# Altium footprint library SQD50N05.PcbLib: 1 footprints
Each footprint in its own frame and in the unit in brackets; x right, y up, seen from the top. Pads: shape width x height; smd on the part's side, far side on the other; paste and mask are expansions set on the pad; w line width, h text height; cw(c..) or ccw(c..) is an arc to the next point about the centre after c.
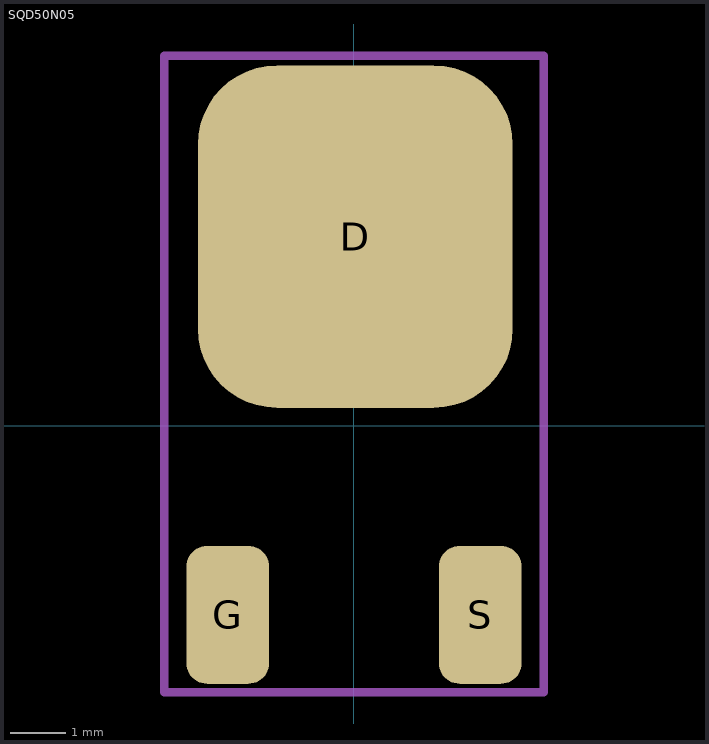
[diagram p0: the footprint, top view; thin cyan lines are the x and y axes]

## SQD50N05 [mm] "DPAK housing"
height 2.3
pads (3):
  rrect50% 5.7x6.2 smd: D(0.025,3.425)
  rrect50% 1.5x2.5 smd: G(-2.287,-3.425) S(2.288,-3.425)
Mechanical 15:
  lines w0.15: -3.437,-4.825 -3.437,6.7 3.438,6.7 3.438,-4.825 -3.437,-4.825
3D body: height 0.61, standoff 0, extent 1.873,-4.575 2.753,-1.275
3D body: height 0.61, standoff 0, extent -2.727,-4.575 -1.847,-1.275
3D body: height 0.89, standoff 0, extent -2.718,4.94 2.742,6.21
3D body: height 2.38, standoff 0, extent -3.367,-1.285 3.363,4.935